# Altium schematic symbol library P82B96TD.Schlib: 1 symbol
Pins are listed as number, name and electrical type; pins without a type are passive.

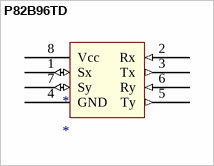
[diagram p0: symbol P82B96TD]

## P82B96TD
designator *
pins: 1 Sx (io), 2 Rx (in), 3 Tx (out), 4 GND (power), 5 Ty (out), 6 Ry (in), 7 Sy (io), 8 Vcc (power)